# Altium schematic symbol library Schlib1.SchLib: 9 symbols
Pins are listed as number, name and electrical type; pins without a type are passive.

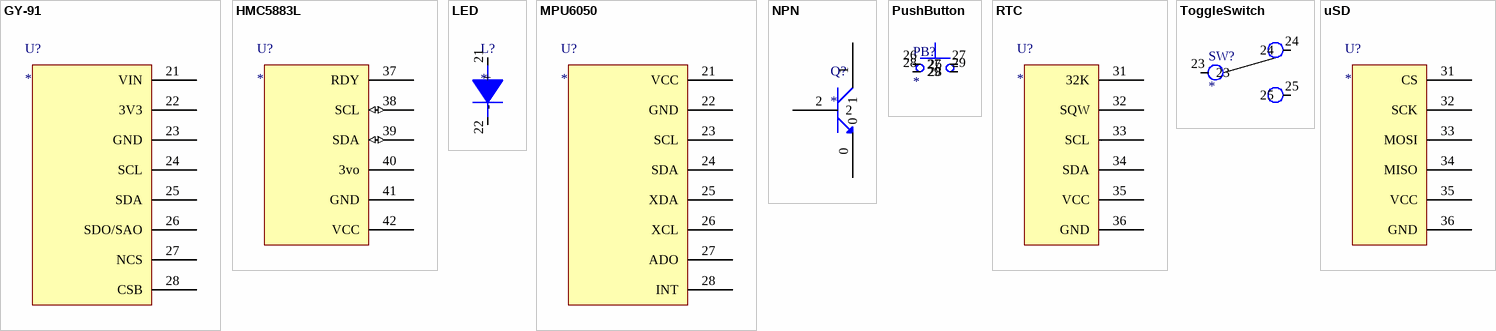
[diagram p0: symbols GY-91 to uSD]

## GY-91
designator U?
footprint GYFOOTPRINT; pin to pad 21>7 22>6 23>5 24>4 25>3 26>2 27>1 28>0
pins: 21 VIN, 22 3V3, 23 GND, 24 SCL, 25 SDA, 26 SDO/SAO, 27 NCS, 28 CSB

## HMC5883L
designator U?
footprint HMCFootprint; pin to pad 37>0 38>1 39>2 40>3 41>4 42>5
pins: 37 RDY, 38 SCL (io), 39 SDA (io), 40 3vo, 41 GND, 42 VCC

## LED
designator L?
footprint LEDFOOTPRINT; pin to pad 21>1 22>0
pins: 21 +, 22 -

## MPU6050
designator U?
footprint MPU6FOOTPRINT; pin to pad 21>7 22>6 23>5 24>4 25>3 26>2 27>1 28>0
pins: 21 VCC, 22 GND, 23 SCL, 24 SDA, 25 XDA, 26 XCL, 27 ADO, 28 INT

## NPN
designator Q?
NPN Generic
footprint D2PAK_M (Footprint not found)
pins: 0, 1, 2

## PushButton
designator PB?
footprint PCBComponent_1; pin to pad 26>7 27>5 28>8 29>6
pins: 26, 27, 28, 29

## RTC
designator U?
footprint DS3FOOTPRINT (DS3231); pin to pad 31>5 32>4 33>3 34>2 35>1 36>0
pins: 31 32K, 32 SQW, 33 SCL, 34 SDA, 35 VCC, 36 GND

## ToggleSwitch
designator SW?
footprint SWITCHFOOTPRINT; pin to pad 23>3 24>2 25>4
pins: 23, 24, 25

## uSD
designator U?
footprint USDFOOTPRINT; pin to pad 31>5 32>4 33>3 34>2 35>1 36>0
pins: 31 CS, 32 SCK, 33 MOSI, 34 MISO, 35 VCC, 36 GND